# Altium footprint library V_2.PcbLib: 4 footprints
Each footprint in its own frame and in the unit in brackets; x right, y up, seen from the top. Pads: shape width x height; smd on the part's side, far side on the other; paste and mask are expansions set on the pad; w line width, h text height; cw(c..) or ccw(c..) is an arc to the next point about the centre after c.
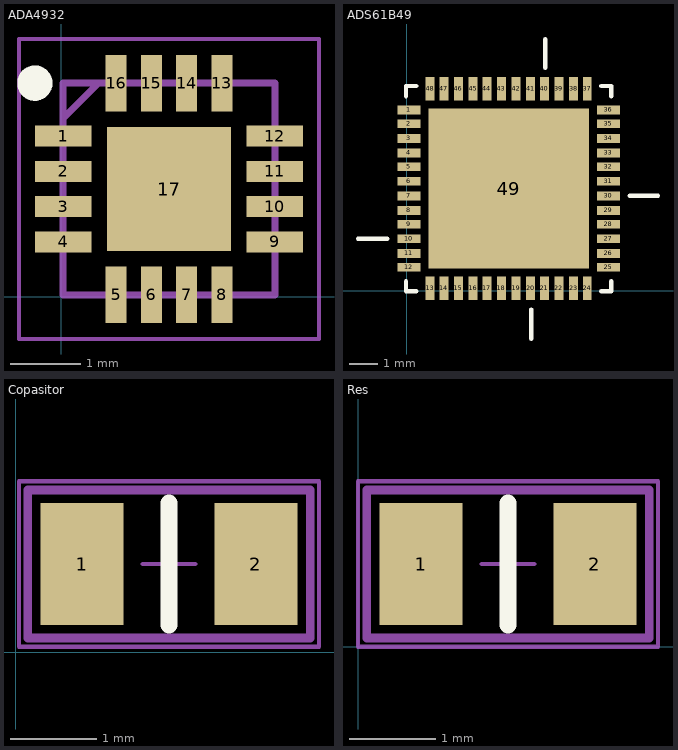
[diagram p0: the footprints below, top view; thin cyan lines are the x and y axes]

## ADA4932 [mm]
pads (17):
  rect 0.8x0.3 smd: 1(0.024,2.274) 2(0.024,1.774) 3(0.024,1.274) 4(0.024,0.774) 9(3.024,0.774) 10(3.024,1.274) 11(3.024,1.774) 12(3.024,2.274)
  rect 0.3x0.8 smd: 5(0.774,0.024) 6(1.274,0.024) 7(1.774,0.024) 8(2.274,0.024) 13(2.274,3.024) 14(1.774,3.024) 15(1.274,3.024) 16(0.774,3.024)
  rect 1.75x1.75 smd: 17(1.524,1.524)
Top Overlay:
  circle w0.25: c-0.376,3.024 r0.125
Mechanical 13:
  lines w0.1: 0.024,2.524 0.524,3.024 ; 0.024,0.024 3.024,0.024 3.024,3.024 0.024,3.024 0.024,0.024
Mechanical 15:
  lines w0.05: -0.601,-0.601 3.649,-0.601 3.649,3.649 -0.601,3.649 -0.601,-0.601
3D body "AD8352ACPZ.stp": height 0.8, standoff 0, extent -0.026,-0.026 3.074,3.074

## ADS61B49 [mil]
pads (49):
  rect 32x12 smd: 1(3,248) 2(3,229) 3(3,209) 4(3,189) 5(3,170) 6(3,150) 7(3,130) 8(3,110) 9(3,91) 10(3,71) 11(3,51) 12(3,32) 25(277,32) 26(277,51) 27(277,71) 28(277,91) 29(277,110) 30(277,130) 31(277,150) 32(277,170) 33(277,189) 34(277,209) 35(277,229) 36(277,248)
  rect 12x32 smd: 13(32,3) 14(51,3) 15(71,3) 16(91,3) 17(110,3) 18(130,3) 19(150,3) 20(170,3) 21(189,3) 22(209,3) 23(229,3) 24(248,3) 37(248,277) 38(229,277) 39(209,277) 40(189,277) 41(170,277) 42(150,277) 43(130,277) 44(110,277) 45(91,277) 46(71,277) 47(51,277) 48(32,277)
  rect 220x220 smd: 49(140,140)
Top Overlay:
  lines w6: -67,71 -27,71 ; -1,13 -1,-1 13,-1 ; -1,267 -1,281 13,281 ; 171,-66 171,-26 ; 190,306 190,345 ; 267,-1 281,-1 281,13 ; 267,281 281,281 281,267 ; 306,130 345,130
3D body "ADS61B49IRGZT.stp": height 39.37, standoff 0, extent 2.2,2.2 277.8,277.8

## Copasitor [mm]
pads (2):
  rect 0.95x1.4 smd: 1(0.762,1.016) 2(2.762,1.016)
Top Overlay:
  lines w0.2: 1.762,0.316 1.762,1.716
Mechanical 8:
  lines w0.1: 0.137,0.166 3.387,0.166 3.387,1.866 0.137,1.866 0.137,0.166
  text ".Designator" at 0.362,0.391 h0.8
Mechanical 15:
  lines w0.05: 1.462,1.016 2.062,1.016 ; 1.762,0.716 1.762,1.316 ; 0.037,0.066 3.487,0.066 3.487,1.966 0.037,1.966 0.037,0.066
3D body "CAPC2012X90N.stp": height 0.9, standoff 0, extent 0.712,0.341 2.812,1.691

## Res [mm]
pads (2):
  rect 0.95x1.4 smd: 1(0.725,0.95) 2(2.725,0.95)
Top Overlay:
  lines w0.2: 1.725,0.25 1.725,1.65
Mechanical 8:
  lines w0.1: 0.1,0.1 3.35,0.1 3.35,1.8 0.1,1.8 0.1,0.1
  text ".Designator" at 0.325,0.6 h0.8
Mechanical 15:
  lines w0.05: 1.425,0.95 2.025,0.95 ; 1.725,0.65 1.725,1.25 ; 0,0 3.45,0 3.45,1.9 0,1.9 0,0
3D body "RESC2012X60N.stp": height 0.6, standoff 0, extent 0.625,0.275 2.825,1.625